# Altium footprint library PS_PcbLib.PcbLib: 25 footprints (part 1 of 2)
Each footprint in its own frame and in the unit in brackets; x right, y up, seen from the top. Pads: shape width x height; smd on the part's side, far side on the other; paste and mask are expansions set on the pad; w line width, h text height; cw(c..) or ccw(c..) is an arc to the next point about the centre after c.
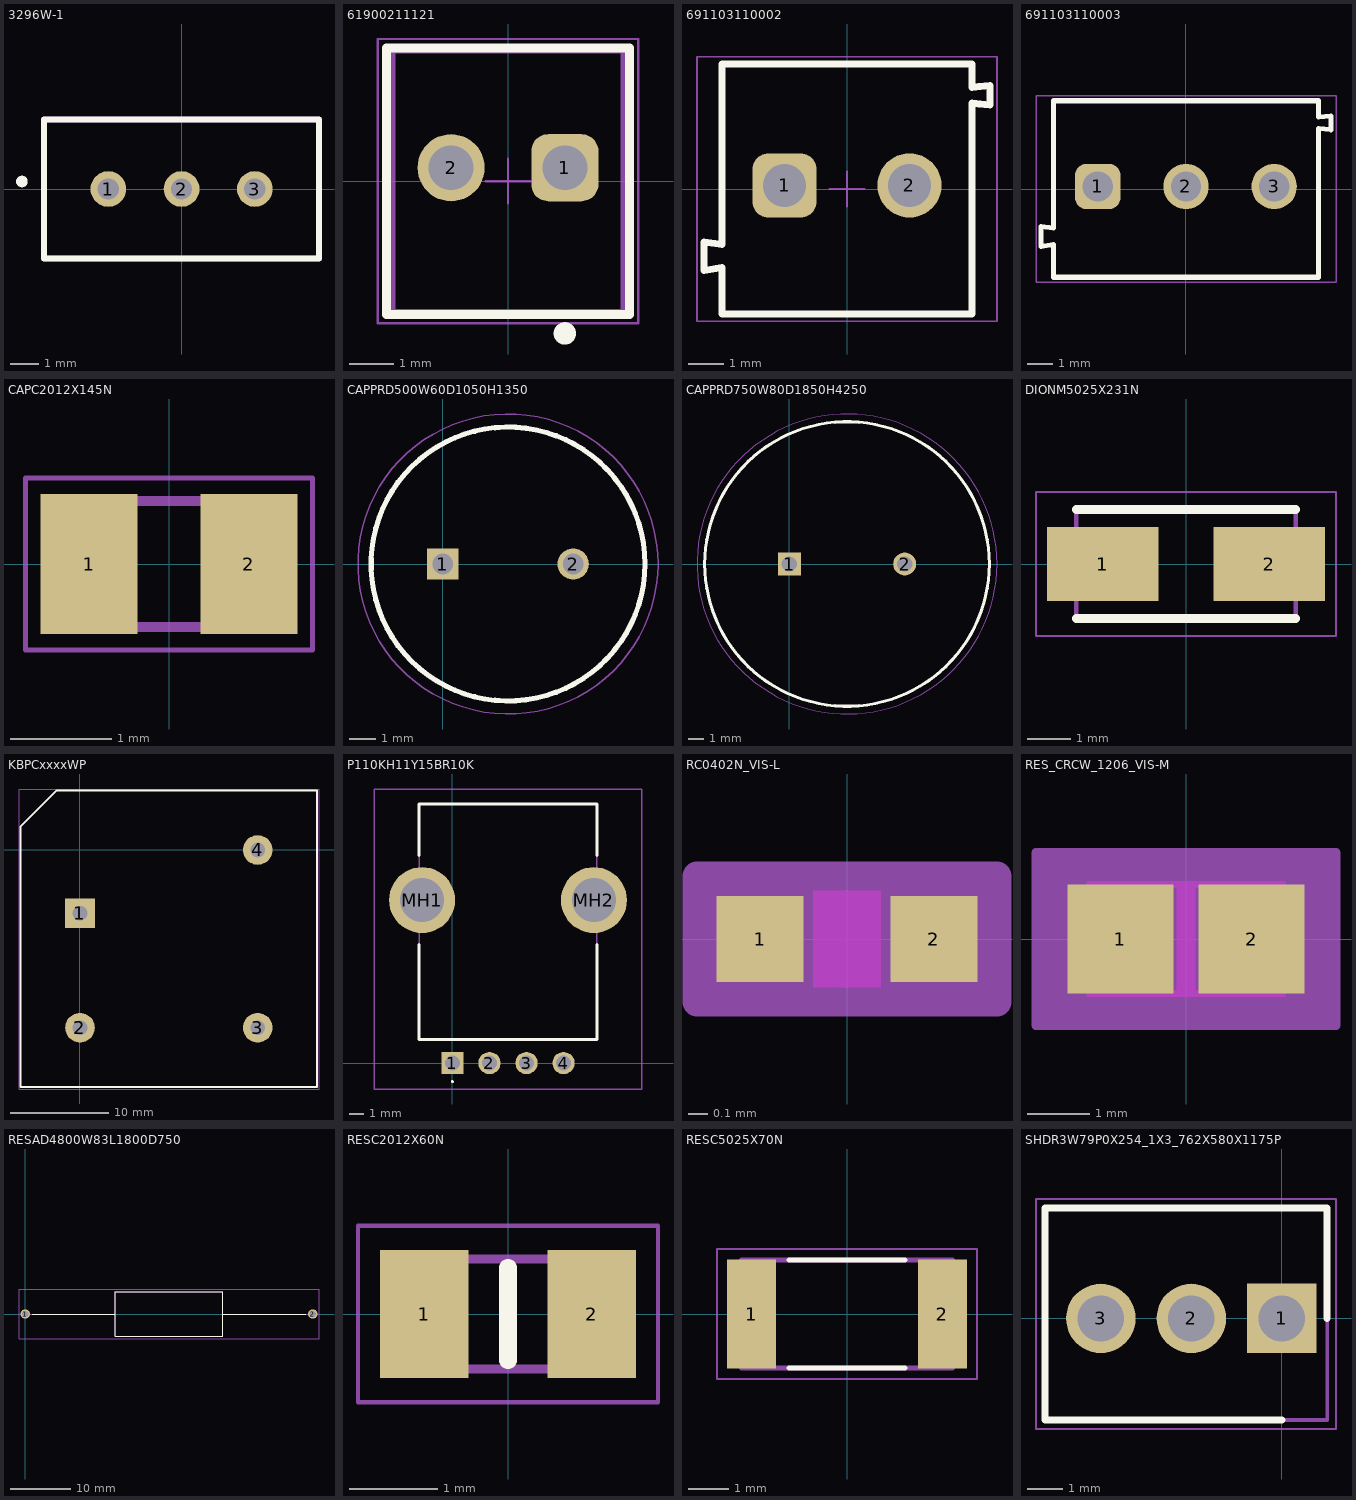
[diagram p0: the footprints below, top view; thin cyan lines are the x and y axes]

## 3296W-1 [mm]
pads (3):
  round 1.24 hole 0.74: 1(-2.54,0) 2(0,0) 3(2.54,0)
Top Overlay:
  circle w0.2: c-5.536,0.26 r0.1
  lines w0.2: -4.765,-2.41 -4.765,2.41 4.765,2.41 4.765,-2.41 -4.765,-2.41
Mechanical 13:
  lines w0.2: -4.765,-2.41 -4.765,2.41 4.765,2.41 4.765,-2.41 -4.765,-2.41
3D body "3296W-1-104LF.stp": height 11.55, standoff -3.01, extent -4.775,-2.476 4.775,2.35

## 61900211121 [mm] "2.54mm Male Locking Header, 2p"
height 11.5
pads (2):
  rrect50% 1.5x1.5 hole 1: 1(1.27,0.3)
  round 1.5 hole 1: 2(-1.27,0.3)
Top Overlay:
  circle w0.25: c1.27,-3.4 r0.125
  lines w0.2: -2.71,-2.975 -2.71,2.975 2.71,2.975 2.71,-2.975 -2.71,-2.975
Top Courtyard:
  lines w0.05: -0.5,0 0.5,0 ; 0,-0.5 0,0.5 ; -2.91,-3.175 2.91,-3.175 2.91,3.175 -2.91,3.175 -2.91,-3.175
Top Designator:
  text ".Designator" at -7.498,-0.5 h1.5
Top Component Outline:
  lines w0.1: -2.56,-2.9 2.56,-2.9 2.56,2.9 -2.56,2.9 -2.56,-2.9
3D body "61900211121.stp": height 11.53, standoff -3.37, extent -2.54,-2.9 2.54,2.9

## 691103110002 [mm] "3,50mm - modular - blue - Horizontal wire entry - Pressure clamp - 8,4mm height - 02p"
height 8.4
pads (2):
  rrect50% 1.8x1.8 hole 1.2: 1(-1.75,0.1)
  round 1.8 hole 1.2: 2(1.75,0.1)
Top Overlay:
  lines w0.2: -3.5,-1.55 -3.5,3.5 3.5,3.5 3.5,2.85 4,2.899 4,2.35 ; -3.499,-1.55 -4,-1.48 -4,-2.278 -3.5,-2.2 -3.5,-3.5 3.5,-3.5 3.5,2.4 4,2.351
Top Courtyard:
  lines w0.05: -4.2,-3.7 -4.2,3.7 4.2,3.7 4.2,-3.7 -4.2,-3.7
Top Designator:
  text ".Designator" at -7.498,-0.5 h1.5
Top 3D Body:
  lines w0.1: -3.5,-1.55 -3.5,3.5 3.5,3.5 3.5,2.85 4,2.899 4,2.35 ; -3.499,-1.55 -4,-1.48 -4,-2.278 -3.5,-2.2 -3.5,-3.5 3.5,-3.5 3.5,2.4 4,2.351
Top Component Outline:
  lines w0.1: -3.5,-1.55 -3.5,3.5 3.5,3.5 3.5,2.85 4,2.899 4,2.35 ; -3.499,-1.55 -4,-1.48 -4,-2.278 -3.5,-2.2 -3.5,-3.5 3.5,-3.5 3.5,2.4 4,2.351
Top Component Center:
  lines w0.05: -0.5,0 0.5,0 ; 0,-0.5 0,0.5
3D body "691103110002.stp": height 8.45, standoff -3.75, extent -4,-3.5 4,3.5

## 691103110003 [mm] "3,50mm - modular - blue - Horizontal wire entry - Pressure clamp - 8,4mm height - 03p"
height 8.4
pads (3):
  rrect50% 1.8x1.8 hole 1.2: 1(-3.5,0.1)
  round 1.8 hole 1.2: 2(0,0.1) 3(3.5,0.1)
Top Overlay:
  lines w0.2: -5.25,-1.55 -5.25,3.5 5.25,3.5 5.25,2.85 5.75,2.899 5.75,2.35 ; -5.249,-1.55 -5.75,-1.48 -5.75,-2.278 -5.25,-2.2 -5.25,-3.5 5.25,-3.5 5.25,2.4 5.75,2.351
Top Courtyard:
  lines w0.05: -5.95,-3.7 5.95,-3.7 5.95,3.7 -5.95,3.7 -5.95,-3.7
Top Designator:
  text ".Designator" at -7.498,-0.5 h1.5
Top 3D Body:
  lines w0.1: -5.25,-1.55 -5.25,3.5 5.25,3.5 5.25,2.85 5.75,2.899 5.75,2.35 ; -5.249,-1.55 -5.75,-1.48 -5.75,-2.278 -5.25,-2.2 -5.25,-3.5 5.25,-3.5 5.25,2.4 5.75,2.351
Top Component Outline:
  lines w0.1: -5.25,-1.55 -5.25,3.5 5.25,3.5 5.25,2.85 5.75,2.899 5.75,2.35 ; -5.249,-1.55 -5.75,-1.48 -5.75,-2.278 -5.25,-2.2 -5.25,-3.5 5.25,-3.5 5.25,2.4 5.75,2.351
Top Component Center:
  lines w0.05: -0.5,0 0.5,0 ; 0,-0.5 0,0.5
3D body "691103110003.stp": height 8.45, standoff -3.75, extent -5.75,-3.5 5.75,3.5

## CAPC2012X145N [mm]
pads (2):
  rect 0.96x1.39 smd: 1(-0.79,0) 2(0.79,0)
Mechanical 13:
  lines w0.1: -1,-0.625 1,-0.625 1,0.625 -1,0.625 -1,-0.625
Mechanical 15:
  lines w0.05: -1.42,-0.85 1.42,-0.85 1.42,0.85 -1.42,0.85 -1.42,-0.85
3D body "TMK212BBJ106MG-T.stp": height 1.45, standoff 0, extent -1,-0.625 1,0.625

## CAPPRD500W60D1050H1350 [mm]
pads (2):
  rect 1.2x1.2 hole 0.8: 1(0,0)
  round 1.2 hole 0.8: 2(5,0)
Top Overlay:
  circle w0.2: c2.5,0 r5.25
Mechanical 13:
  circle w0.1: c2.5,0 r5.25
Mechanical 15:
  circle w0.05: c2.5,0 r5.75
3D body "MAL213668479E3.stp": height 13.5, standoff -10, extent -2.75,-5.238 7.75,5.238

## CAPPRD750W80D1850H4250 [mm]
pads (2):
  rect 1.5x1.5 hole 1: 1(0,0)
  round 1.5 hole 1: 2(7.5,0)
Top Overlay:
  circle w0.2: c3.75,0 r9.25
Mechanical 13:
  circle w0.1: c3.75,0 r9.25
Mechanical 15:
  circle w0.05: c3.75,0 r9.75
3D body "MAL215051332E3.stp": height 42.5, standoff -10, extent -5.479,-9.245 13,9.245

## DIONM5025X231N [mm]
pads (2):
  rect 2.55x1.7 smd: 1(-1.9,0) 2(1.9,0)
Top Overlay:
  lines w0.2: -2.502,-1.242 2.502,-1.242 ; -2.502,1.242 2.502,1.242
Mechanical 13:
  lines w0.1: -2.502,-1.242 -2.502,1.242 2.502,1.242 2.502,-1.242 -2.502,-1.242
Mechanical 15:
  lines w0.05: -3.425,-1.645 -3.425,1.645 3.425,1.645 3.425,-1.645 -3.425,-1.645
3D body "FM4004-W.stp": height 2.31, standoff 0, extent -2.502,-1.242 2.502,1.242

## KBPCxxxxWP [mm]
pads (4):
  rect 3x3 hole 1.5: 1(0,-6.4)
  round 3 hole 1.5: 2(0,-18) 3(18,-18) 4(18,0)
Top Overlay:
  lines w0.2: -6,-24 -6,2.4 -2.4,6 24,6 24,-24 -6,-24
Mechanical 15:
  lines w0.1: -6.173,-24.207 -6.173,6.173 24.207,6.173 24.207,-24.207 -6.173,-24.207
3D body "p12.1_KBPC.stp": height 7.5, standoff -22.8, extent -5.35,-23.25 23.25,5.35

## P110KH11Y15BR10K [mm]
pads (6):
  rect 1.5x1.5 hole 1: 1(0,0)
  round 1.5 hole 1: 2(2.5,0) 3(5,0) 4(7.5,0)
  round 4.455 hole 2.97: MH1(-2.05,11) MH2(9.55,11)
Top Overlay:
  lines w0.1: 0,-1.3 ccw(c0,-1.25) 0,-1.2 ccw(c0,-1.25) 0,-1.3
  lines w0.2: -2.25,8 -2.25,1.6 9.75,1.6 9.75,8 ; -2.25,14 -2.25,17.5 9.75,17.5 9.75,14
Mechanical 13:
  lines w0.1: -2.25,1.6 -2.25,17.5 9.75,17.5 9.75,1.6 -2.25,1.6
Mechanical 15:
  lines w0.1: -5.277,-1.75 -5.277,18.5 ; -5.277,-1.75 12.777,-1.75 ; -5.277,-1.75 -5.277,18.5 ; -5.277,-1.75 12.777,-1.75 ; -5.277,18.5 12.777,18.5 ; -5.277,18.5 12.777,18.5 ; 12.777,-1.75 12.777,18.5 ; 12.777,-1.75 12.777,18.5
3D body "P110KH1-1Y15BR10K.stp": height 23.1, standoff -5, extent -3.435,-0.397 10.935,17.5

## RC0402N_VIS-L [mm]
pads (2):
  rect 0.452x0.449 smd paste+0 mask+0: 1(-0.451,0) 2(0.451,0)
Top Layer keep-out:
  region: -0.174,-0.199 -0.174,0.199 0.174,0.199 0.174,-0.199
Keep-Out Layer:
  region: -0.174,-0.25 -0.174,0.25 0.174,0.25 0.174,-0.25
Mechanical 13:
  lines w0.025: -0.525,-0.25 -0.525,0.25 ; -0.525,-0.25 -0.225,-0.25 -0.225,0.25 -0.525,0.25 ; -0.525,-0.25 0.525,-0.25 ; -0.525,-0.25 -0.525,0.25 ; -0.525,0.25 0.525,0.25 ; 0.525,-0.25 0.225,-0.25 0.225,0.25 0.525,0.25 ; 0.525,-0.25 0.525,0.25 ; 0.525,-0.25 0.525,0.25
Mechanical 15:
  region: 0.779,-0.326 -0.779,-0.326 -0.779,0.326 0.779,0.326
  lines w0.152: -0.779,-0.326 -0.779,0.326 0.779,0.326 0.779,-0.326 -0.779,-0.326
3D body "RC0402N_VIS.step": height 0.71, standoff 0, extent -0.525,-0.25 0.525,0.25

## RES_CRCW_1206_VIS-M [mil]
pads (2):
  rect 67x69 smd paste+0 mask+0: 1(-41.5,0) 2(41.5,0)
Top Layer keep-out:
  region: -6,-36.5 -6,36.5 6,36.5 6,-36.5
  region: -63,36.5 -63,32.5 63,32.5 63,36.5
  region: -63,-32.5 -63,-36.5 63,-36.5 63,-32.5
Keep-Out Layer:
  region: -6,-36.5 -6,36.5 6,36.5 6,-36.5
Mechanical 13:
  lines w1: -65,-34.5 65,-34.5 65,34.5 -65,34.5 -65,-34.5
Mechanical 15:
  region: -85,-54.5 -95,-54.5 -95,54.5 -85,54.5 85,54.5 95,54.5 95,-54.5 85,-54.5
  lines w6: -95,-54.5 -95,54.5 -85,54.5 85,54.5 95,54.5 95,-54.5 85,-54.5 -85,-54.5 -95,-54.5
3D body "RES_CRCW_1206_VIS.step": height 24.02, standoff 0, extent -65,-34.49 65,34.49

## RESAD4800W83L1800D750 [mm]
pads (2):
  round 1.575 hole 1.05: 1(0,0) 2(48,0)
Top Overlay:
  lines w0.2: 1.138,0 15,0 ; 33,0 46.862,0 ; 15,-3.75 15,3.75 33,3.75 33,-3.75 15,-3.75
Mechanical 13:
  lines w0.1: 0,0 15,0 ; 33,0 48,0 ; 15,-3.75 15,3.75 33,3.75 33,-3.75 15,-3.75
Mechanical 15:
  lines w0.05: -1.038,-4.1 -1.038,4.1 49.037,4.1 49.037,-4.1 -1.038,-4.1
3D body "AC05000004707JAC00.stp": height 7.49, standoff -7.5, extent -0.415,-3.747 48.415,3.747

## RESC2012X60N [mm]
pads (2):
  rect 1x1.45 smd: 1(-0.95,0) 2(0.95,0)
Top Overlay:
  lines w0.2: 0,-0.525 0,0.525
Mechanical 13:
  lines w0.1: -1,-0.625 -1,0.625 1,0.625 1,-0.625 -1,-0.625
Mechanical 15:
  lines w0.05: -1.7,-1 -1.7,1 1.7,1 1.7,-1 -1.7,-1
3D body "CR0805-FX-1002ELF.stp": height 0.5, standoff 0, extent -1,-0.625 1,0.625

## RESC5025X70N [mm]
pads (2):
  rect 1.2x2.67 smd: 1(-2.335,0) 2(2.335,0)
Top Overlay:
  lines w0.127: -1.42,-1.32 1.42,-1.32 ; -1.42,1.32 1.42,1.32
Mechanical 13:
  lines w0.127: -2.58,-1.32 2.58,-1.32 2.58,1.32 -2.58,1.32 -2.58,-1.32
Mechanical 15:
  lines w0.05: -3.185,-1.585 3.185,-1.585 3.185,1.585 -3.185,1.585 -3.185,-1.585

## SHDR3W79P0X254_1X3_762X580X1175P [mm]
pads (3):
  rect 1.95x1.95 hole 1.3: 1(0,0)
  round 1.95 hole 1.3: 2(-2.54,0) 3(-5.08,0)
Top Overlay:
  lines w0.2: 0,-2.85 -6.65,-2.85 -6.65,3.1 1.27,3.1 1.27,0
Mechanical 13:
  lines w0.1: -6.65,-2.85 -6.65,3.1 1.27,3.1 1.27,-2.85 -6.65,-2.85
Mechanical 15:
  lines w0.05: -6.9,-3.1 -6.9,3.35 1.52,3.35 1.52,-3.1 -6.9,-3.1
3D body "61900311121.stp": height 11.75, standoff -3.7, extent -6.35,-2.9 1.27,2.9